# Altium footprint library SOIC-LEDRGB.PcbLib: 1 footprints
Each footprint in its own frame and in the unit in brackets; x right, y up, seen from the top. Pads: shape width x height; smd on the part's side, far side on the other; paste and mask are expansions set on the pad; w line width, h text height; cw(c..) or ccw(c..) is an arc to the next point about the centre after c.
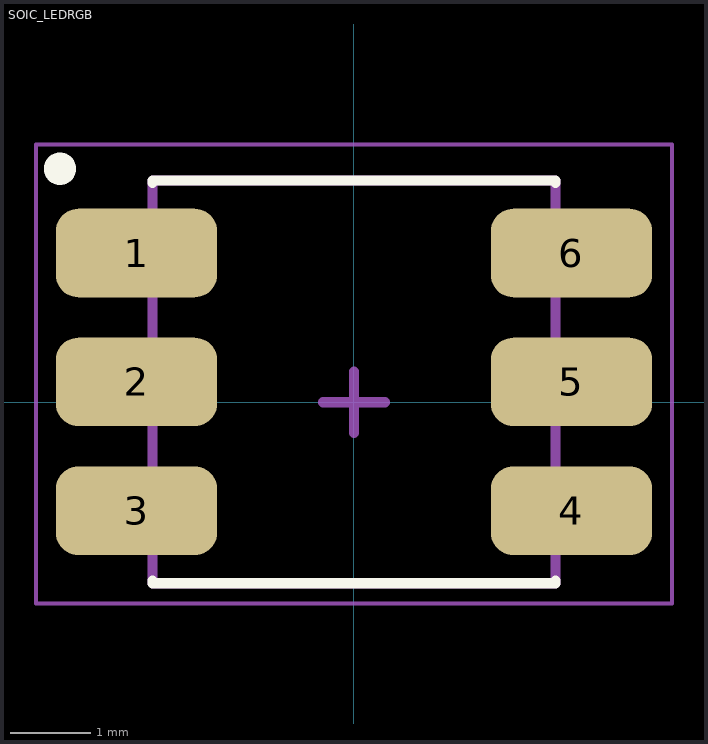
[diagram p0: the footprint, top view; thin cyan lines are the x and y axes]

## SOIC_LEDRGB [mm]
pads (6):
  rrect50% 2x1.1 smd: 1(-2.7,1.854) 2(-2.7,0.254) 3(-2.7,-1.346) 4(2.7,-1.346) 5(2.7,0.254) 6(2.7,1.854)
Top Overlay:
  circle w0.2: c-3.65,2.9 r0.1
  lines w0.127: -2.5,-2.216 -2.5,-2.246 2.5,-2.246 2.5,-2.216 ; -2.5,2.724 -2.5,2.754 2.5,2.754 2.5,2.724
Top 3D Body:
  lines w0.127: -2.5,-2.246 -2.5,2.754 2.5,2.754 2.5,-2.246 -2.5,-2.246
  text "1" at -1.35,1.6 h0.6
Top Courtyard:
  lines w0.05: -3.95,-2.496 3.95,-2.496 3.95,3.2 -3.95,3.2 -3.95,-2.496
  lines w0.127: -0.381,0 0.381,0 ; 0,-0.381 0,0.381
Top Designator (Mech29):
  text ".Designator" at 0.267,-3.999 h0.8
3D body "step_temp.STEP": height 1.5, standoff 0, extent -2.7,-2.246 2.7,2.754